# Altium footprint library 转接板封装PCB.PcbLib: 44 footprints (part 1 of 3)
Each footprint in its own frame and in the unit in brackets; x right, y up, seen from the top. Pads: shape width x height; smd on the part's side, far side on the other; paste and mask are expansions set on the pad; w line width, h text height; cw(c..) or ccw(c..) is an arc to the next point about the centre after c.
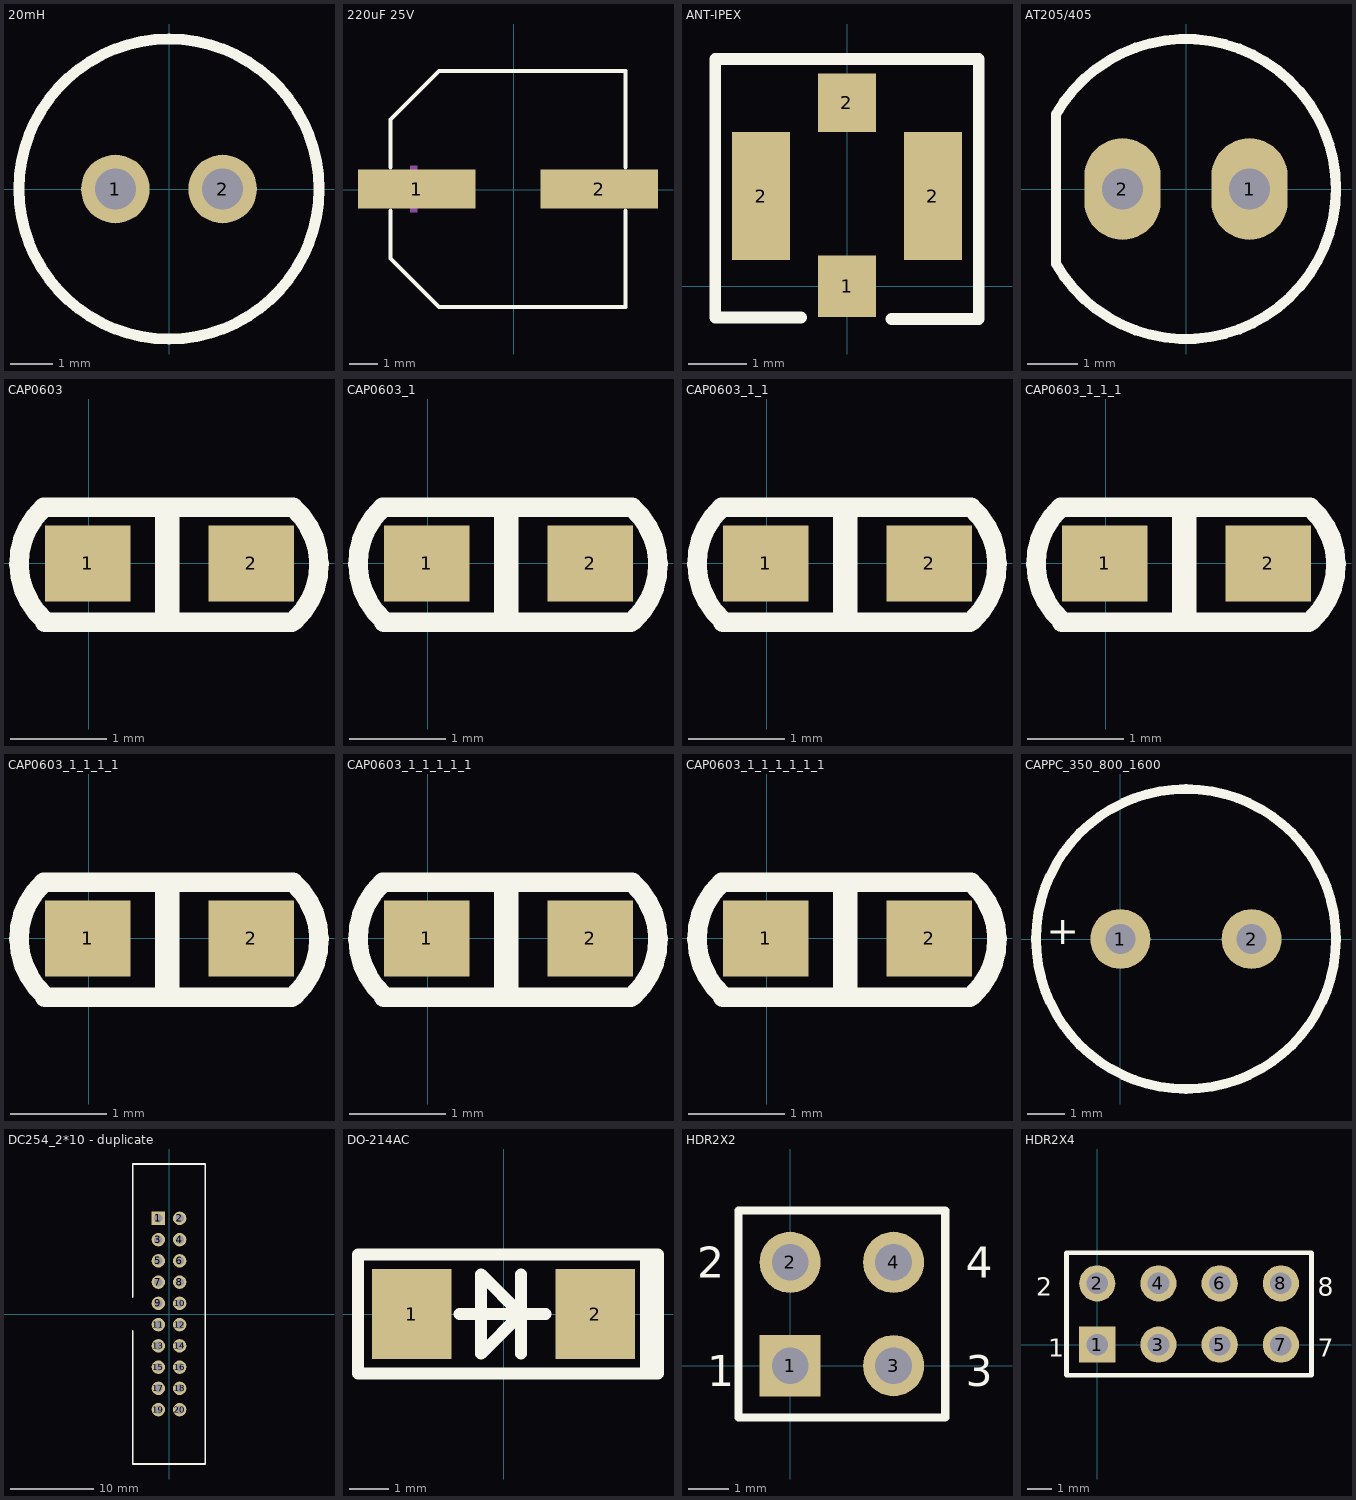
[diagram p0: the footprints below, top view; thin cyan lines are the x and y axes]

## 20mH [mm]
pads (2):
  round 1.6 hole 0.95: 1(-1.25,0) 2(1.25,0)
Top Overlay:
  circle w0.254: c0,0 r3.5

## 220uF 25V [mm]
pads (2):
  rect 4.2x1.4 smd: 1(-3.47,0.025) 2(3.064,0.025)
Top Overlay:
  lines w0.152: -4.404,-0.757 -4.404,-2.465 -2.668,-4.201 3.998,-4.201 3.998,-0.757 ; -4.404,0.808 -4.404,2.515 -2.668,4.252 3.998,4.252 3.998,0.808
Mechanical 15:
  region: -3.706,0.855 -3.706,-0.805 -3.457,-0.805 -3.457,0.855
  region: -4.079,0.15 -4.079,-0.099 -3.083,-0.099 -3.083,0.15
  region: 3.673,0.15 3.673,-0.099 2.677,-0.099 2.677,0.15

## ANT-IPEX [mm] "IPX天线座"
pads (4):
  rect 1x1.05 smd: 1(0,0)
  rect 1x2.2 smd: 2(-1.475,1.55) 2(1.475,1.55)
  rect 1x1 smd: 2(0,3.151)
Top Overlay:
  lines w0.203: -0.787,-0.534 -2.261,-0.534 -2.261,3.9 2.261,3.9 2.261,-0.559 0.762,-0.559

## AT205/405 [mil]
pads (2):
  oval 60x80 hole 32: 1(50,0) 2(-50,0)
Top Overlay:
  lines w7.99: -102.29,-59.06 ccw(c0,0) -102.29,59.06
  lines w8: -102.29,-59.06 -102.29,59.06

## CAP0603 [mil]
pads (2):
  rect 35x31 smd: 1(-0.49,0) 2(66.51,0)
Top Overlay:
  lines w8: -18,-24 83,-24 ; -18,-23.44 cw(c2.51,0) -18.49,23 83.51,23 cw(c63,-0.44) 84,-23.44
  lines w10: 32,-23 32,22
3D body: height 19.68, standoff 0, extent 62,-15 72,15
3D body: height 19.68, standoff 0, extent 1,-15 11,15
3D body: height 19.68, standoff 0, extent 11,-15 62,15

## CAP0603_1 [mil]
pads (2):
  rect 35x31 smd: 1(-0.49,0) 2(66.51,0)
Top Overlay:
  lines w8: -18,-24 83,-24 ; -18,-23.44 cw(c2.51,0) -18.49,23 83.51,23 cw(c63,-0.44) 84,-23.44
  lines w10: 32,-23 32,22
3D body: height 19.68, standoff 0, extent 62,-15 72,15
3D body: height 19.68, standoff 0, extent 1,-15 11,15
3D body: height 19.68, standoff 0, extent 11,-15 62,15

## CAP0603_1_1 [mil]
pads (2):
  rect 35x31 smd: 1(-0.49,0) 2(66.51,0)
Top Overlay:
  lines w8: -18,-24 83,-24 ; -18,-23.44 cw(c2.51,0) -18.49,23 83.51,23 cw(c63,-0.44) 84,-23.44
  lines w10: 32,-23 32,22
3D body: height 19.68, standoff 0, extent 11,-15 62,15
3D body: height 19.68, standoff 0, extent 1,-15 11,15
3D body: height 19.68, standoff 0, extent 62,-15 72,15

## CAP0603_1_1_1 [mil]
pads (2):
  rect 35x31 smd: 1(-0.49,0) 2(66.51,0)
Top Overlay:
  lines w8: -18,-24 83,-24 ; -18,-23.44 cw(c2.51,0) -18.49,23 83.51,23 cw(c63,-0.44) 84,-23.44
  lines w10: 32,-23 32,22
3D body: height 19.68, standoff 0, extent 62,-15 72,15
3D body: height 19.68, standoff 0, extent 1,-15 11,15
3D body: height 19.68, standoff 0, extent 11,-15 62,15

## CAP0603_1_1_1_1 [mil]
pads (2):
  rect 35x31 smd: 1(-0.49,0) 2(66.51,0)
Top Overlay:
  lines w8: -18,-24 83,-24 ; -18,-23.44 cw(c2.51,0) -18.49,23 83.51,23 cw(c63,-0.44) 84,-23.44
  lines w10: 32,-23 32,22
3D body: height 19.68, standoff 0, extent 11,-15 62,15
3D body: height 19.68, standoff 0, extent 1,-15 11,15
3D body: height 19.68, standoff 0, extent 62,-15 72,15

## CAP0603_1_1_1_1_1 [mil]
pads (2):
  rect 35x31 smd: 1(-0.49,0) 2(66.51,0)
Top Overlay:
  lines w8: -18,-24 83,-24 ; -18,-23.44 cw(c2.51,0) -18.49,23 83.51,23 cw(c63,-0.44) 84,-23.44
  lines w10: 32,-23 32,22
3D body: height 19.68, standoff 0, extent 62,-15 72,15
3D body: height 19.68, standoff 0, extent 1,-15 11,15
3D body: height 19.68, standoff 0, extent 11,-15 62,15

## CAP0603_1_1_1_1_1_1 [mil]
pads (2):
  rect 35x31 smd: 1(-0.49,0) 2(66.51,0)
Top Overlay:
  lines w8: -18,-24 83,-24 ; -18,-23.44 cw(c2.51,0) -18.49,23 83.51,23 cw(c63,-0.44) 84,-23.44
  lines w10: 32,-23 32,22
3D body: height 19.68, standoff 0, extent 11,-15 62,15
3D body: height 19.68, standoff 0, extent 1,-15 11,15
3D body: height 19.68, standoff 0, extent 62,-15 72,15

## CAPPC_350_800_1600 [mm]
pads (2):
  round 1.6 hole 0.8: 1(0,0) 2(3.5,0)
Top Overlay:
  circle w0.254: c1.75,0 r4
  text "+" at -1.095,0.5 h0.76
3D body "User Library-Capacitor Radial ElectroliticCAPPR350-800X1500.STEP": height 15.11, standoff -2.6, extent -2.255,-4 5.755,4

## DC254_2*10 - duplicate [mm]
height 2.54
pads (20):
  rect 1.6x1.6 hole 1: 1(-1.27,11.43)
  round 1.6 hole 1: 2(1.27,11.43) 3(-1.27,8.89) 4(1.27,8.89) 5(-1.27,6.35) 6(1.27,6.35) 7(-1.27,3.81) 8(1.27,3.81) 9(-1.27,1.27) 10(1.27,1.27) 11(-1.27,-1.27) 12(1.27,-1.27) 13(-1.27,-3.81) 14(1.27,-3.81) 15(-1.27,-6.35) 16(1.27,-6.35) 17(-1.27,-8.89) 18(1.27,-8.89) 19(-1.27,-11.43) 20(1.27,-11.43)
Top Overlay:
  lines w0.2: -4.35,-2 -4.35,-17.93 4.35,-17.93 4.35,17.93 -4.35,17.93 -4.35,2

## DO-214AC [mil]
pads (2):
  rect 80x90.55 smd: 1(-92.5,0) 2(92.5,0)
Top Overlay:
  lines w12: -44.5,0 42.5,0 ; 17.5,-40 17.5,40 ; 143.5,-60 143.5,60 ; -146.5,-60 155.5,-60 155.5,60 -146.5,60 -146.5,-60 ; -22.5,-40 -22.5,40 17.5,0 -22.5,-40
3D body "DO-214AC.STEP": height 94.49, standoff 0, extent -91.05,-53.15 90.05,53.15

## HDR2X2 [mm] "Connector; Header; 2x2 Position"
pads (4):
  rect 1.5x1.5 hole 0.9: 1(0,0)
  round 1.5 hole 0.9: 2(0,2.54) 3(2.54,0) 4(2.54,2.54)
Top Overlay:
  lines w0.2: -1.27,-1.27 -1.27,3.81 3.81,3.81 3.81,-1.27 -1.27,-1.27
  text "4" at 4.318,2.159 h0.76
  text "3" at 4.318,-0.508 h0.76
  text "1" at -2.032,-0.508 h0.76
  text "2" at -2.286,2.159 h0.76

## HDR2X4 [mm] "Connector; Header; 4x2 Position"
pads (8):
  rect 1.5x1.5 hole 0.9: 1(0,0)
  round 1.5 hole 0.9: 2(0,2.54) 3(2.54,0) 4(2.54,2.54) 5(5.08,0) 6(5.08,2.54) 7(7.62,0) 8(7.62,2.54)
Top Overlay:
  lines w0.2: -1.27,-1.27 8.89,-1.27 8.89,3.81 -1.27,3.81 -1.27,-1.27
  text "2" at -2.54,2.032 h0.76
  text "1" at -2.032,-0.508 h0.76
  text "7" at 9.144,-0.508 h0.76
  text "8" at 9.144,2.032 h0.76